# Altium schematic symbol library 元件符号库.SchLib: 23 symbols
Pins are listed as number, name and electrical type; pins without a type are passive.

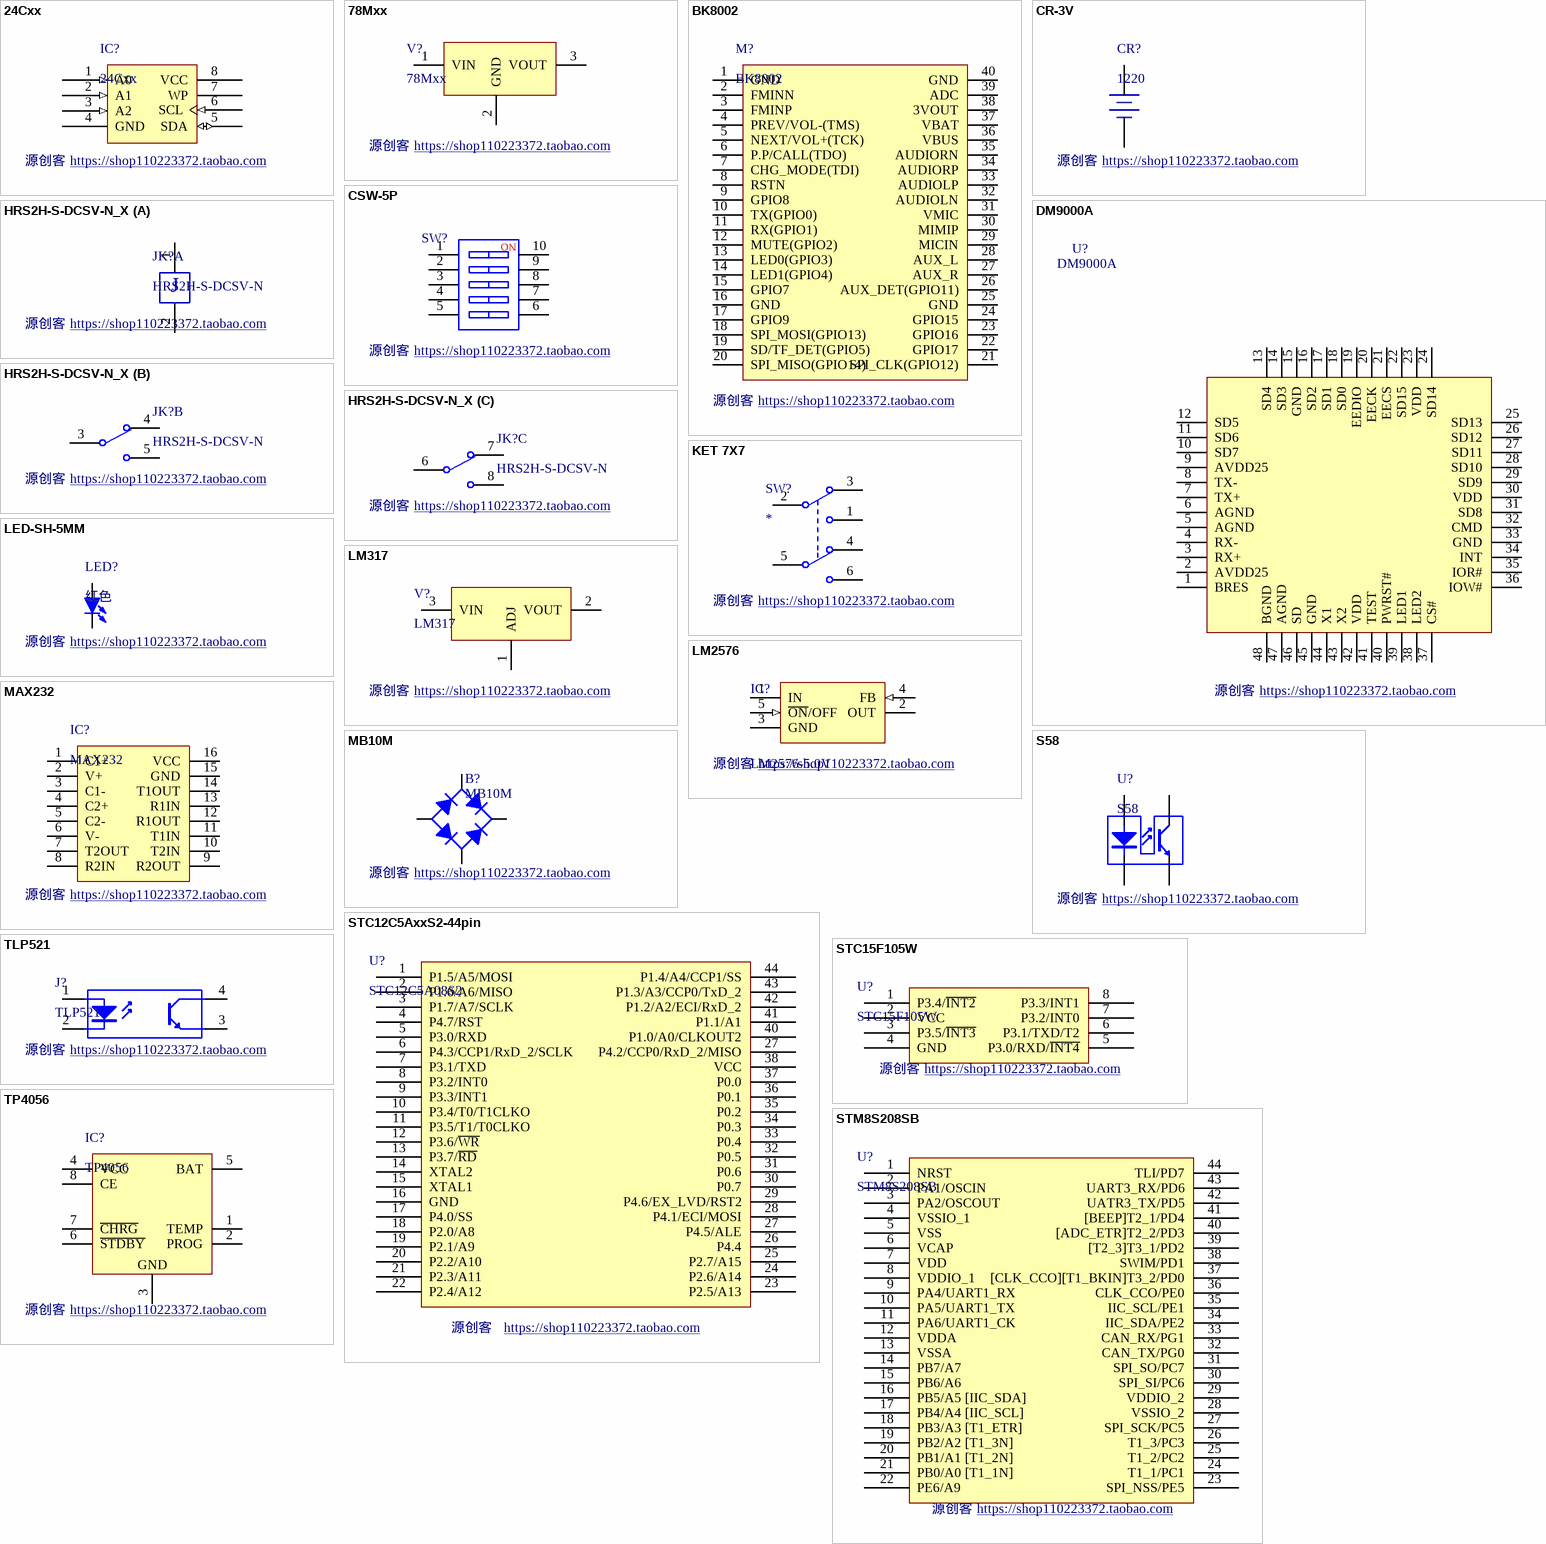
[diagram p0: symbols 24Cxx to TP4056]

## 24Cxx
designator IC?  版权归属: 源创客
外置EEPROM; 试用产品: 如您满意请支持正品; BOM名称: 外置EEPROM; 学习资源: www.ooocke.com; 淘宝购买网址: https://shop110223372.taobao.com
footprint SOP8_L (5*6*1.8mm（长宽高）)
footprint SOP8_N (5*6*1.8mm（长宽高）)
footprint SOP8_M (5*6*1.8mm（长宽高）)
pins: 1 A0 (in), 2 A1 (in), 3 A2 (in), 4 GND, 5 SDA (io), 6 SCL (in), 7 WP, 8 VCC (power)

## 78Mxx
designator V?  版权归属: 源创客
线性稳压芯片; 试用产品: 如您满意请支持正品; BOM名称: 线性稳压芯片; 学习资源: www.ooocke.com; 淘宝购买网址: https://shop110223372.taobao.com
footprint TO252 (252晶体管)
footprint TO220A (220，3脚晶体管)
footprint TO220B (220，3脚晶体管)
pins: 1 VIN, 2 GND, 3 VOUT

## BK8002
designator M?  版权归属: 源创客
蓝牙模块，带FM; BOM名称: 蓝牙立体声模块; 试用产品: 如您满意请支持正品; 学习资源: www.ooocke.com; 淘宝购买网址: https://shop110223372.taobao.com
footprint BK8002
pins: 1 GND, 2 FMINN, 3 FMINP, 4 PREV/VOL-(TMS), 5 NEXT/VOL+(TCK), 6 P.P/CALL(TDO), 7 CHG_MODE(TDI), 8 RSTN, 9 GPIO8, 10 TX(GPIO0), 11 RX(GPIO1), 12 MUTE(GPIO2), 13 LED0(GPIO3), 14 LED1(GPIO4), 15 GPIO7, 16 GND, 17 GPIO9, 18 SPI_MOSI(GPIO13), 19 SD/TF_DET(GPIO5), 20 SPI_MISO(GPIO14), 21 SPI_CLK(GPIO12), 22 GPIO17, 23 GPIO16, 24 GPIO15, 25 GND, 26 AUX_DET(GPIO11), 27 AUX_R, 28 AUX_L, 29 MICIN, 30 MIMIP, 31 VMIC, 32 AUDIOLN, 33 AUDIOLP, 34 AUDIORP, 35 AUDIORN, 36 VBUS, 37 VBAT, 38 3VOUT, 39 ADC, 40 GND

## CR-3V
designator CR?, comment 1220  版权归属: 源创客
微型电池; 试用产品: 如您满意请支持正品; BOM名称: 微型电池; 学习资源: www.ooocke.com; 淘宝购买网址: https://shop110223372.taobao.com
footprint CR1220_A (纽扣电池座)
footprint CR1220_B (纽扣电池座)
footprint ML621FE (可充电纽扣电池)
pins: DC+, DC-

## CSW-5P
designator SW?  版权归属: 源创客  (hidden comment: *)
5路编码开关; 试用产品: 如您满意请支持正品; BOM名称: 5路编码开关; 学习资源: www.ooocke.com; 淘宝购买网址: https://shop110223372.taobao.com
footprint CSW DIP-5P (14.2*9.9*7mm)
footprint CSW DIP-5P_G (14.2*9.9*7mm)
pins: 1, 2, 3, 4, 5, 6, 7, 8, 9, 10
text: NO

## DM9000A
designator U?  版权归属: 源创客
网络芯片; 试用产品: 如您满意请支持正品; BOM名称: 网络芯片; 学习资源: www.ooocke.com; 淘宝购买网址: https://shop110223372.taobao.com
footprint LQFP48 7X7_L (7*7*1.4(长宽高，除引脚）)
footprint LQFP48 7X7_M (7*7*1.4(长宽高，除引脚）)
footprint LQFP48 7X7_N (7*7*1.4(长宽高，除引脚）)
pins: 1 BRES, 2 AVDD25, 3 RX+, 4 RX-, 5 AGND, 6 AGND, 7 TX+, 8 TX-, 9 AVDD25, 10 SD7, 11 SD6, 12 SD5, 13 SD4, 14 SD3, 15 GND, 16 SD2, 17 SD1, 18 SD0, 19 EEDIO, 20 EECK, 21 EECS, 22 SD15, 23 VDD, 24 SD14, 25 SD13, 26 SD12, 27 SD11, 28 SD10, 29 SD9, 30 VDD, 31 SD8, 32 CMD, 33 GND, 34 INT, 35 IOR#, 36 IOW#, 37 CS#, 38 LED2, 39 LED1, 40 PWRST#, 41 TEST, 42 VDD, 43 X2, 44 X1, 45 GND, 46 SD, 47 AGND, 48 BGND

## HRS2H-S-DCSV-N_X
designator JK?, comment HRS2H-S-DCSV-N  版权归属: 源创客
5V双路双控继电器; BOM名称: 5V双路继电器; 试用产品: 如您满意请支持正品; 学习资源: www.ooocke.com; 淘宝购买网址: https://shop110223372.taobao.com
footprint HRS2H (双刀双投)
part A pins: 1, 2
part B pins: 3, 4, 5
part C pins: 6, 7, 8
part A text: J

## KET 7X7
designator SW?  版权归属: 源创客
7*7自锁开关; 试用产品: 如您满意请支持正品; BOM名称: 7*7自锁开关; 学习资源: www.ooocke.com; 淘宝购买网址: https://shop110223372.taobao.com
footprint KFT DIP-7X7 (自锁开关，规格：7*7mm)
pins: 1 NC1, 2 COM2, 3 NO1, 4 NO2, 5 COM2, 6 NC2

## LED-SH-5MM
designator LED?, comment 红色  版权归属: 源创客
5mm草帽LED; 试用产品: 如您满意请支持正品; BOM名称: 5mm草帽LED; 学习资源: www.ooocke.com; 淘宝购买网址: https://shop110223372.taobao.com
footprint LED SH-5MM-W (白色5mm草帽，直插LED)
pins: A, K

## LM317
designator V?  版权归属: 源创客
可调线性稳压芯片; 试用产品: 如您满意请支持正品; BOM名称: 可调线性稳压芯片; 学习资源: www.ooocke.com; 淘宝购买网址: https://shop110223372.taobao.com
footprint TO252 (252晶体管)
footprint TO220A (220，3脚晶体管)
footprint TO220B (220，3脚晶体管)
pins: 1 ADJ, 2 VOUT, 3 VIN

## LM2576
designator IC?, comment LM2576-5.0V  版权归属: 源创客
DC降压芯片; 试用产品: 如您满意请支持正品; BOM名称: DC降压芯片; 学习资源: www.ooocke.com; 淘宝购买网址: https://shop110223372.taobao.com
footprint TO220-5A (220，5脚晶体管)
footprint TO220-5B (220，5脚晶体管)
footprint TO220-5C (220，5脚晶体管)
pins: 1 IN (power), 2 OUT (power), 3 GND (power), 4 FB (in), 5 ~{ON}/OFF (in)

## MAX232
designator IC?  版权归属: 源创客
试用产品: 如您满意请支持正品; BOM名称: MAX232; 学习资源: www.ooocke.com; 淘宝购买网址: https://shop110223372.taobao.com
footprint DIP16-300 (19.3*7.6*3.8(长宽高）)
footprint SOP16_L (10.3*6.2*1.8mm（长宽高）)
footprint SOP16_N (10.3*6.2*1.8mm（长宽高）)
footprint SOP16_M (10.3*6.2*1.8mm（长宽高）)
pins: 1 C1+, 2 V+, 3 C1-, 4 C2+, 5 C2-, 6 V-, 7 T2OUT, 8 R2IN, 9 R2OUT, 10 T2IN, 11 T1IN, 12 R1OUT, 13 R1IN, 14 T1OUT, 15 GND, 16 VCC

## MB10M
designator B?  版权归属: 源创客
1KV/0.8A整流桥; 试用产品: 如您满意请支持正品; BOM名称: 1KV/0.8A整流桥; 学习资源: www.ooocke.com; 淘宝购买网址: https://shop110223372.taobao.com
footprint MBM (4.8*5.2*2.5mm(长宽高))
pins: AC1, AC2, DC+, DC-

## S58
designator U?  版权归属: 源创客
槽间光耦; 试用产品: 如您满意请支持正品; BOM名称: 槽间光耦; 学习资源: www.ooocke.com; 淘宝购买网址: https://shop110223372.taobao.com
footprint S58 (对射型光耦)
pins: 1 A, 2 K, 3 C, 4 E

## STC12C5AxxS2-44pin
designator U?, comment STC12C5A08S2  版权归属: 源创客
STC单片机; 试用产品: 如您满意请支持正品; BOM名称: STC单片机; 学习资源: www.ooocke.com; 淘宝购买网址: https://shop110223372.taobao.com
footprint LQFP44 10x10_L (10*10*1.4(长宽高，除引脚）)
footprint LQFP44 10x10_N (10*10*1.4(长宽高，除引脚）)
footprint LQFP44 10x10_M (10*10*1.4(长宽高，除引脚）)
pins: 1 P1.5/A5/MOSI, 2 P1.6/A6/MISO, 3 P1.7/A7/SCLK, 4 P4.7/RST, 5 P3.0/RXD, 6 P4.3/CCP1/RxD_2/SCLK, 7 P3.1/TXD, 8 P3.2/INT0, 9 P3.3/INT1, 10 P3.4/T0/T1CLKO, 11 P3.5/T1/T0CLKO, 12 P3.6/~{WR}, 13 P3.7/~{RD}, 14 XTAL2, 15 XTAL1, 16 GND, 17 P4.0/SS, 18 P2.0/A8, 19 P2.1/A9, 20 P2.2/A10, 21 P2.3/A11, 22 P2.4/A12, 23 P2.5/A13, 24 P2.6/A14, 25 P2.7/A15, 26 P4.4, 27 P4.2/CCP0/RxD_2/MISO, 27 P4.5/ALE, 28 P4.1/ECI/MOSI, 29 P4.6/EX_LVD/RST2, 30 P0.7, 31 P0.6, 32 P0.5, 33 P0.4, 34 P0.3, 35 P0.2, 36 P0.1, 37 P0.0, 38 VCC, 40 P1.0/A0/CLKOUT2, 41 P1.1/A1, 42 P1.2/A2/ECI/RxD_2, 43 P1.3/A3/CCP0/TxD_2, 44 P1.4/A4/CCP1/SS

## STC15F105W
designator U?  版权归属: 源创客
STC单片机; 试用产品: 如您满意请支持正品; BOM名称: STC单片机; 学习资源: www.ooocke.com; 淘宝购买网址: https://shop110223372.taobao.com
footprint DIP8-300 (9.4*7.6*3.8(长宽高）)
footprint SOP8_L (5*6*1.8mm（长宽高）)
footprint SOP8_N (5*6*1.8mm（长宽高）)
footprint SOP8_M (5*6*1.8mm（长宽高）)
pins: 1 P3.4/~{INT2}, 2 VCC, 3 P3.5/~{INT3}, 4 GND, 5 P3.0/RXD/~{INT4}, 6 P3.1/TXD/T2, 7 P3.2/INT0, 8 P3.3/INT1

## STM8S208SB
designator U?  版权归属: 源创客
8位STM单片机; 试用产品: 如您满意请支持正品; BOM名称: 8位STM单片机; 学习资源: www.ooocke.com; 淘宝购买网址: https://shop110223372.taobao.com
footprint LQFP44 10X10_N (10*10*1.4(长宽高，除引脚）)
footprint LQFP44 10X10_L (10*10*1.4(长宽高，除引脚）)
footprint LQFP44 10X10_M (10*10*1.4(长宽高，除引脚）)
pins: 1 NRST, 2 PA1/OSCIN, 3 PA2/OSCOUT, 4 VSSIO_1, 5 VSS, 6 VCAP, 7 VDD, 8 VDDIO_1, 9 PA4/UART1_RX, 10 PA5/UART1_TX, 11 PA6/UART1_CK, 12 VDDA, 13 VSSA, 14 PB7/A7, 15 PB6/A6, 16 PB5/A5 [IIC_SDA], 17 PB4/A4 [IIC_SCL], 18 PB3/A3 [T1_ETR], 19 PB2/A2 [T1_3N], 20 PB1/A1 [T1_2N], 21 PB0/A0 [T1_1N], 22 PE6/A9, 23 SPI_NSS/PE5, 24 T1_1/PC1, 25 T1_2/PC2, 26 T1_3/PC3, 27 SPI_SCK/PC5, 28 VSSIO_2, 29 VDDIO_2, 30 SPI_SI/PC6, 31 SPI_SO/PC7, 32 CAN_TX/PG0, 33 CAN_RX/PG1, 34 IIC_SDA/PE2, 35 IIC_SCL/PE1, 36 CLK_CCO/PE0, 37 [CLK_CCO][T1_BKIN]T3_2/PD0, 38 SWIM/PD1, 39 [T2_3]T3_1/PD2, 40 [ADC_ETR]T2_2/PD3, 41 [BEEP]T2_1/PD4, 42 UATR3_TX/PD5, 43 UART3_RX/PD6, 44 TLI/PD7

## TLP521
designator J?  版权归属: 源创客
开关光耦; 试用产品: 如您满意请支持正品; BOM名称: 开关光耦; 学习资源: www.ooocke.com; 淘宝购买网址: https://shop110223372.taobao.com
footprint DIP4-300 (4.6*7.6*3.8(长宽高）)
footprint SOP4_N (4.4*6.8*2.1mm（长宽高）)
footprint SOP4_L (4.4*6.8*2.1mm（长宽高）)
footprint SOP4_M (4.4*6.8*2.1mm（长宽高）)
pins: 1 A "Anode", 2 K "Cathode", 3 E "Emitter", 4 C "Collector"

## TP4056
designator IC?  版权归属: 源创客
锂电池充电管理; 试用产品: 如您满意请支持正品; BOM名称: 锂电池充电管理; 学习资源: www.ooocke.com; 淘宝购买网址: https://shop110223372.taobao.com
footprint SOP8_N (5*6*1.8mm（长宽高）)
footprint SOP8_L (5*6*1.8mm（长宽高）)
footprint SOP8_M (5*6*1.8mm（长宽高）)
pins: 1 TEMP, 2 PROG, 3 GND, 4 VCC, 5 BAT, 6 ~{STDBY}, 7 ~{CHRG}, 8 CE

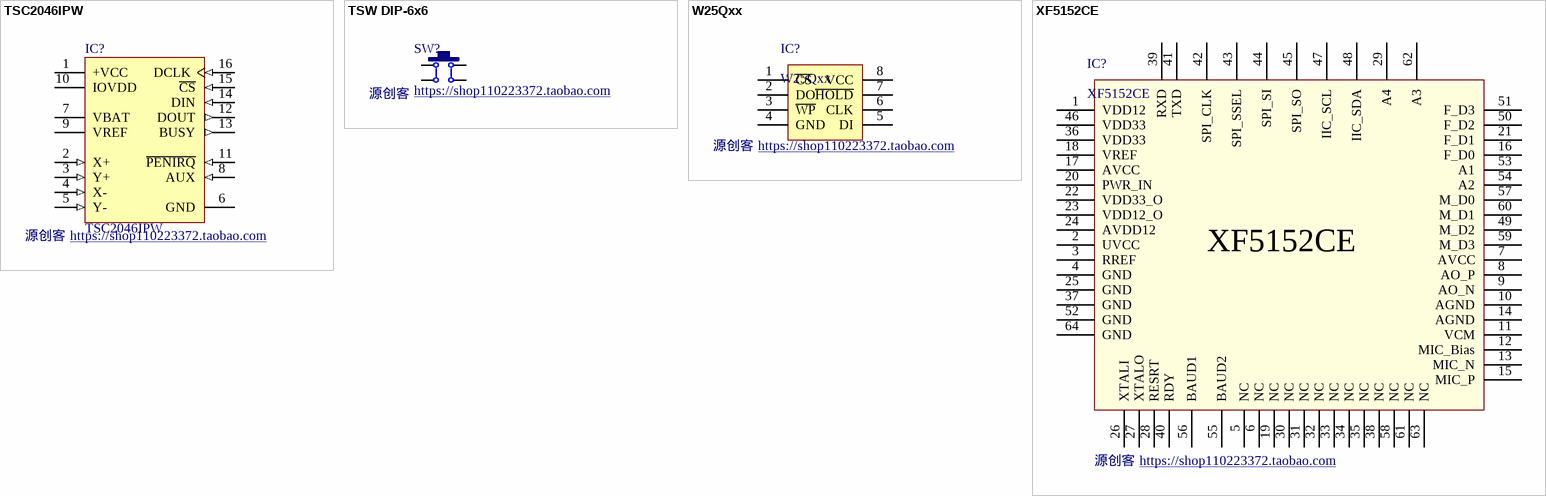
[diagram p1: symbols TSC2046IPW to XF5152CE]

## TSC2046IPW
designator IC?  版权归属: 源创客
显示屏触摸驱动芯片; BOM名称: 触摸驱动芯片; 试用产品: 如您满意请支持正品; 学习资源: www.ooocke.com; 淘宝购买网址: https://shop110223372.taobao.com
footprint TSSOP16_N
footprint TSSOP16_L
footprint TSSOP16_M
pins: 1 +VCC (power), 2 X+ (in), 3 Y+ (in), 4 X- (in), 5 Y- (in), 6 GND (power), 7 VBAT (power), 8 AUX (in), 9 VREF (power), 10 IOVDD (power), 11 ~{PENIRQ} (in), 12 DOUT (out), 13 BUSY (out), 14 DIN (in), 15 ~{CS} (in), 16 DCLK (in)

## TSW DIP-6x6
designator SW?, comment 版权归属: 源创客  (hidden comment: 6x6x5)
直插6x6轻触开关; 试用产品: 如您满意请支持正品; BOM名称: 直插6x6轻触开关; 学习资源: www.ooocke.com; 淘宝购买网址: https://shop110223372.taobao.com
footprint TSW DIP-6*6*6 (6*6*6mm)
footprint TSW DIP-6*6*4.3 (6*6*4.3mm)
footprint TSW DIP-6*6*9 (6*6*9mm)
footprint TSW DIP-6*6*5 (6*6*5mm)
footprint TSW DIP-6*6*7 (6*6*7mm)
footprint TSW DIP-6*6*8 (6*6*8mm)
footprint TSW DIP-6*6*10 (6*6*10mm)
footprint TSW DIP-6*6*11 (6*6*11mm)
footprint TSW DIP-6*6*12 (6*6*12mm)
footprint TSW DIP-6*6*13 (6*6*13mm)
footprint TSW DIP-6*6*14 (6*6*14mm)
footprint TSW DIP-6*6*15 (6*6*15mm)
pins: 1, 2, 3, 4

## W25Qxx
designator IC?  版权归属: 源创客
外置Flash; 试用产品: 如您满意请支持正品; BOM名称: 外置Flash; 学习资源: www.ooocke.com; 淘宝购买网址: https://shop110223372.taobao.com
footprint SOP8W_N (5.3*8.3*1.8mm（长宽高）)
footprint SOP8W_L (5.3*8.3*1.8mm（长宽高）)
footprint SOP8W_M (5.3*8.3*1.8mm（长宽高）)
pins: 1 ~{CS}, 2 DO, 3 ~{WP}, 4 GND, 5 DI, 6 CLK, 7 ~{HOLD}, 8 VCC

## XF5152CE
designator IC?  版权归属: 源创客
语音识别合成芯片; BOM名称: 语音合成芯片; 试用产品: 如您满意请支持正品; 学习资源: www.ooocke.com; 淘宝购买网址: https://shop110223372.taobao.com
footprint LQFP64 10x10_L (14*14*1.4(长宽高，除引脚）)
footprint LQFP64 10x10_M (14*14*1.4(长宽高，除引脚）)
footprint LQFP64 10x10_N (14*14*1.4(长宽高，除引脚）)
pins: 1 VDD12 "DBVDD", 2 UVCC "DBVDD", 3 RREF "DBVDD", 4 GND "DBVDD", 5 NC "DBVDD", 6 NC "DBVDD", 7 AVCC "DBVDD", 8 AO_P "DBVDD", 9 AO_N "DBVDD", 10 AGND "DBVDD", 11 VCM "DBVDD", 12 MIC_Bias "DBVDD", 13 MIC_N "DBVDD", 14 AGND "DBVDD", 15 MIC_P "DBVDD", 16 F_D0 "DBVDD", 17 AVCC "DBVDD", 18 VREF "DBVDD", 19 NC "DBVDD", 20 PWR_IN "DBVDD", 21 F_D1 "DBVDD", 22 VDD33_O "DBVDD", 23 VDD12_O "DBVDD", 24 AVDD12 "DBVDD", 25 GND "DBVDD", 26 XTALI "DBVDD", 27 XTALO "DBVDD", 28 RESRT "DBVDD", 29 A4 "DBVDD", 30 NC "DBVDD", 31 NC "DBVDD", 32 NC "DBVDD", 33 NC "DBVDD", 34 NC "DBVDD", 35 NC "DBVDD", 36 VDD33 "DBVDD", 37 GND "DBVDD", 38 NC "DBVDD", 39 RXD "DBVDD", 40 RDY "DBVDD", 41 TXD "DBVDD", 42 SPI_CLK "DBVDD", 43 SPI_SSEL "DBVDD", 44 SPI_SI "DBVDD", 45 SPI_SO "DBVDD", 46 VDD33 "DBVDD", 47 IIC_SCL "DBVDD", 48 IIC_SDA "DBVDD", 49 M_D2 "DBVDD", 50 F_D2 "DBVDD", 51 F_D3 "DBVDD", 52 GND "DBVDD", 53 A1 "DBVDD", 54 A2 "DBVDD", 55 BAUD2 "DBVDD", 56 BAUD1 "DBVDD", 57 M_D0 "DBVDD", 58 NC "DBVDD", 59 M_D3 "DBVDD", 60 M_D1 "DBVDD", 61 NC "DBVDD", 62 A3 "DBVDD", 63 NC "DBVDD", 64 GND "DBVDD"